# EAGLE library part SIM800L_EVB (library hiveScale)
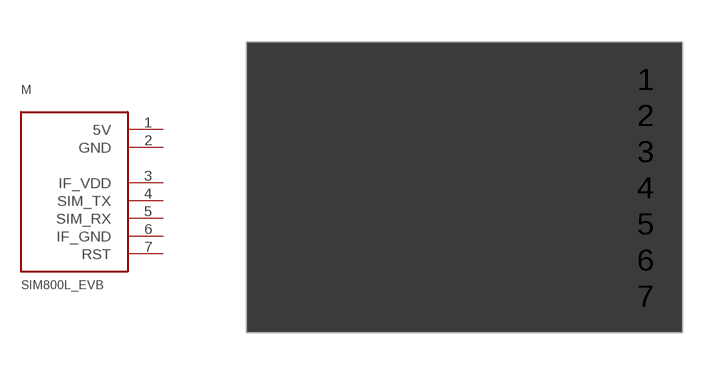
[diagram p0: symbol with the pads of SIM800L_EVB; footprint SIM800L_EVB]

Designator prefix M

## SIM800L_EVB  [SIM800L_EVB]
1  5V  pwr
2  GND  pwr
3  IF_VDD  pwr
4  SIM_TX  out
5  SIM_RX  in
6  IF_GND  pwr
7  RST  in

## Footprint SIM800L_EVB (pad centres in mm)
drill 0.6 square: 1 0,7.62; 2 0,6.35; 3 0,5.08; 4 0,3.81; 5 0,2.54; 6 0,1.27; 7 0,0